# EAGLE library part MOTEINO_MEGA (library Moteino)
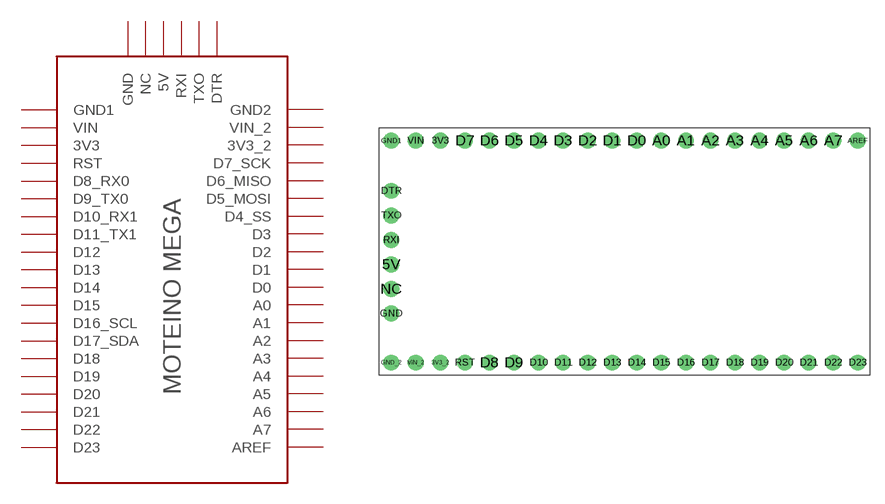
[diagram p2: symbol with the pads of MOTEINO_MEGA; footprint MOTEINO_MEGA]

Designator prefix -

## MOTEINO_MEGA  [MOTEINO_MEGA]
3V3  3V3
3V3_2  3V3_2
5V  5V
A0  A0
A1  A1
A2  A2
A3  A3
A4  A4
A5  A5
A6  A6
A7  A7
AREF  AREF
D0  D0
D1  D1
D2  D2
D3  D3
D4  D4_SS
D5  D5_MOSI
D6  D6_MISO
D7  D7_SCK
D8  D8_RX0
D9  D9_TX0
D10  D10_RX1
D11  D11_TX1
D12  D12
D13  D13
D14  D14
D15  D15
D16  D16_SCL
D17  D17_SDA
D18  D18
D19  D19
D20  D20
D21  D21
D22  D22
D23  D23
DTR  DTR
GND  GND
GND1  GND1
GND_2  GND2
NC  NC
RST  RST
RXI  RXI
TXO  TXO
VIN  VIN
VIN_2  VIN_2

## Footprint MOTEINO_MEGA (pad centres in mm)
drill 1.016 pad 1.626: 3V3 6.35,24.257; 3V3_2 6.35,1.27; 5V 1.27,11.43; A0 29.21,24.257; A1 31.75,24.257; A2 34.29,24.257; A3 36.83,24.257; A4 39.37,24.257; A5 41.91,24.257; A6 44.45,24.257; A7 46.99,24.257; AREF 49.53,24.257; D0 26.67,24.257; D1 24.13,24.257; D2 21.59,24.257; D3 19.05,24.257; D4 16.51,24.257; D5 13.97,24.257; D6 11.43,24.257; D7 8.89,24.257; D8 11.43,1.27; D9 13.97,1.27; D10 16.51,1.27; D11 19.05,1.27; D12 21.59,1.27; D13 24.13,1.27; D14 26.67,1.27; D15 29.21,1.27; D16 31.75,1.27; D17 34.29,1.27; D18 36.83,1.27; D19 39.37,1.27; D20 41.91,1.27; D21 44.45,1.27; D22 46.99,1.27; D23 49.53,1.27; DTR 1.27,19.05; GND 1.27,6.35; GND1 1.27,24.257; GND_2 1.27,1.27; NC 1.27,8.89; RST 8.89,1.27; RXI 1.27,13.97; TXO 1.27,16.51; VIN 3.81,24.257; VIN_2 3.81,1.27